# Altium integrated library AMP Memory Module SIMM.IntLib: 20 symbols
Pins are listed as number, name and electrical type; pins without a type are passive.

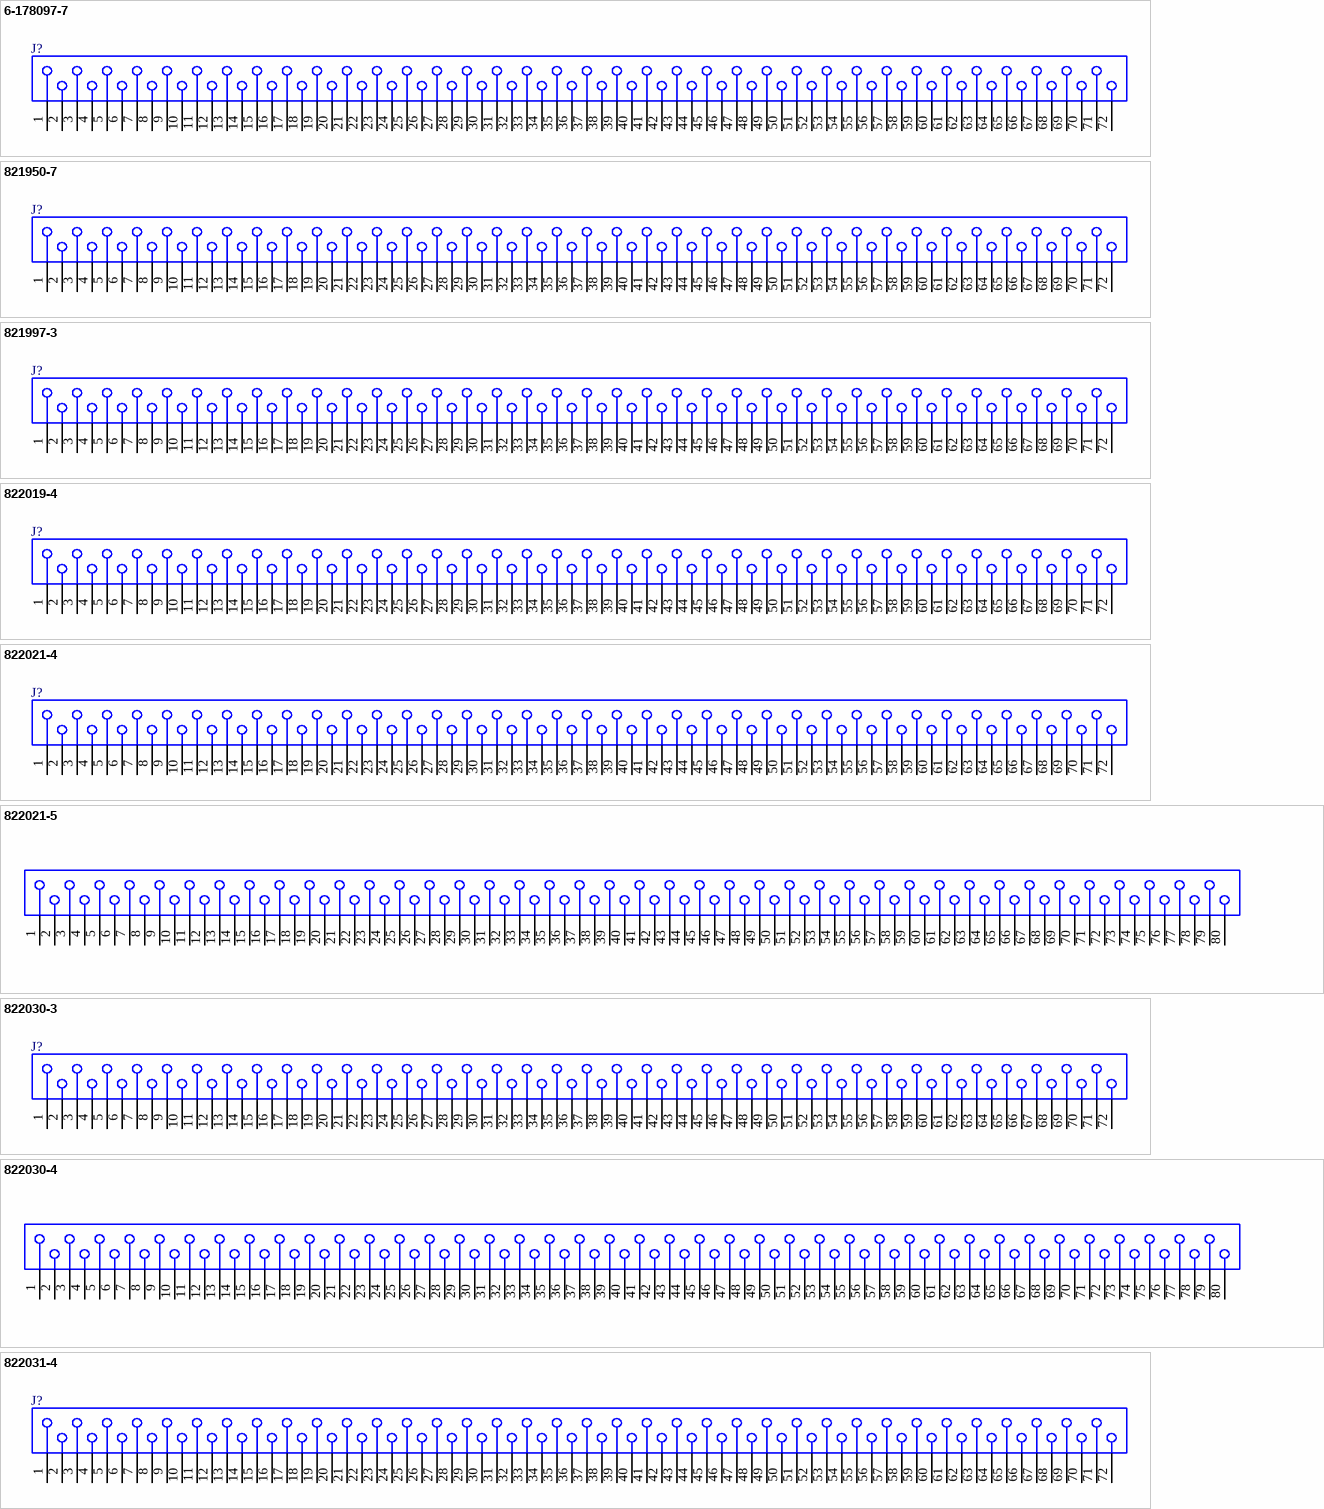
[diagram p0: symbols 6-178097-7 to 822031-4]

## 6-178097-7
designator J?
SIMM, Micro-Edge J Connector Horizontal Type 1.27C/L , Gold Plate; Positions: 72; Rows: Single; InsertionStyle: Cam-In; EjectorLocation: Both Ends; PCB_Layout: Complies with manufacturer's recommendation.; DrillSize: Corresponds to nominal value.; ComponentAvailability: Obsolete; Published: 15-Jun-2001; LatestRevisionDate: 17-Jul-2002; LatestRevisionNote: Re-released for DXP Platform.; DatasheetDocument: 11-Nov-1998; PackageDocument: 11-Nov-1998; PackageReference: 6-178097-7; Publisher: Altium Limited; Orientation: 30°; ComponentLink1Description: Manufacturer Link; ComponentLink1URL: http://www.tycoelectronics.com/
footprint 6-178097-7 (Connector; SIMM; 72 Position; Orientation 30°)
signal-integrity model Memory Module
pins: 1, 2, 3, 4, 5, 6, 7, 8, 9, 10, 11, 12, 13, 14, 15, 16, 17, 18, 19, 20, 21, 22, 23, 24, 25, 26, 27, 28, 29, 30, 31, 32, 33, 34, 35, 36, 37, 38, 39, 40, 41, 42, 43, 44, 45, 46, 47, 48, 49, 50, 51, 52, 53, 54, 55, 56, 57, 58, 59, 60, 61, 62, 63, 64, 65, 66, 67, 68, 69, 70, 71, 72

## 821950-7
designator J?
SIMM, Micro-Edge, 1.27 [.050] Low Profile, Gold Plate; Positions: 72; Rows: Single; InsertionStyle: Cam-In; EjectorLocation: None; PCB_Layout: Complies with manufacturer's recommendation.; DrillSize: Corresponds to nominal value.; Published: 15-Jun-2001; LatestRevisionDate: 17-Jul-2002; LatestRevisionNote: Re-released for DXP Platform.; DatasheetDocument: 15-Jul-1997; PackageDocument: 15-Jul-1997; PackageReference: 821950-7; Publisher: Altium Limited; Orientation: 25°; ComponentLink1Description: Manufacturer Link; ComponentLink1URL: http://www.tycoelectronics.com/; ComponentLink2Description: Packaging Specification; ComponentLink2URL: http://ecommas.tycoelectronics.com/commerce/DocumentDelivery/DDEController?Action=showdoc&DocId=Customer+Drawing%7F821950%7FS%7Fpdf%7FEnglish%7FENG_CD_821950_S.pdf; ComponentLink3Description: Iges Model; ComponentLink3URL: http://catalog.tycoelectronics.com/TE/docs/cadgeo/3/97/35793.tar.gz
footprint 821950-7 (Connector; SIMM; 72 Position; Orientation 25°)
signal-integrity model Memory Module
pins: 1, 2, 3, 4, 5, 6, 7, 8, 9, 10, 11, 12, 13, 14, 15, 16, 17, 18, 19, 20, 21, 22, 23, 24, 25, 26, 27, 28, 29, 30, 31, 32, 33, 34, 35, 36, 37, 38, 39, 40, 41, 42, 43, 44, 45, 46, 47, 48, 49, 50, 51, 52, 53, 54, 55, 56, 57, 58, 59, 60, 61, 62, 63, 64, 65, 66, 67, 68, 69, 70, 71, 72

## 821997-3
designator J?
SIMM, Micro-Edge, 1.27 [.050] Vertical, Gold Plate, Metal Latch; Positions: 72; Rows: Single; InsertionStyle: Cam-In; EjectorLocation: None; PCB_Layout: Complies with manufacturer's recommendation.; DrillSize: Corresponds to nominal value.; Published: 15-Jun-2001; LatestRevisionDate: 17-Jul-2002; LatestRevisionNote: Re-released for DXP Platform.; DatasheetDocument: 27-Jan-1996; PackageDocument: 27-Jan-1996; PackageReference: 821997-3; Publisher: Altium Limited; Orientation: Vertical; ComponentLink1Description: Manufacturer Link; ComponentLink1URL: http://www.tycoelectronics.com/; ComponentLink2Description: Packaging Specification; ComponentLink2URL: http://ecommas.tycoelectronics.com/commerce/DocumentDelivery/DDEController?Action=showdoc&DocId=Customer+Drawing%7F821997%7FS%7Fpdf%7FEnglish%7FENG_CD_821997_S.pdf
footprint 821997-3 (Connector; SIMM; 72 Position; Vertical)
signal-integrity model Memory Module
pins: 1, 2, 3, 4, 5, 6, 7, 8, 9, 10, 11, 12, 13, 14, 15, 16, 17, 18, 19, 20, 21, 22, 23, 24, 25, 26, 27, 28, 29, 30, 31, 32, 33, 34, 35, 36, 37, 38, 39, 40, 41, 42, 43, 44, 45, 46, 47, 48, 49, 50, 51, 52, 53, 54, 55, 56, 57, 58, 59, 60, 61, 62, 63, 64, 65, 66, 67, 68, 69, 70, 71, 72

## 822019-4
designator J?
SIMM, Micro-Edge, 1.27 [.050] CL, Vertical, Tin Plate, Metal Latch; Positions: 72; Rows: Single; InsertionStyle: Cam-In; EjectorLocation: None; PCB_Layout: Complies with manufacturer's recommendation.; DrillSize: Corresponds to nominal value.; Published: 15-Jun-2001; LatestRevisionDate: 17-Jul-2002; LatestRevisionNote: Re-released for DXP Platform.; DatasheetDocument: 17-Jul-2000; PackageDocument: 17-Jul-2000; PackageReference: 822019-4; Publisher: Altium Limited; Orientation: Vertical; ComponentLink1Description: Manufacturer Link; ComponentLink1URL: http://www.tycoelectronics.com/; ComponentLink2Description: Packaging Specification; ComponentLink2URL: http://ecommas.tycoelectronics.com/commerce/DocumentDelivery/DDEController?Action=showdoc&DocId=Customer+Drawing%7F822019%7FP%7Fpdf%7FEnglish%7FENG_CD_822019_P.pdf
footprint 822019-4 (Connector; SIMM; 72 Position; Vertical)
signal-integrity model Memory Module
pins: 1, 2, 3, 4, 5, 6, 7, 8, 9, 10, 11, 12, 13, 14, 15, 16, 17, 18, 19, 20, 21, 22, 23, 24, 25, 26, 27, 28, 29, 30, 31, 32, 33, 34, 35, 36, 37, 38, 39, 40, 41, 42, 43, 44, 45, 46, 47, 48, 49, 50, 51, 52, 53, 54, 55, 56, 57, 58, 59, 60, 61, 62, 63, 64, 65, 66, 67, 68, 69, 70, 71, 72

## 822021-4
designator J?
SIMM, Micro-Edge, 1.27 [.050] Vertical, Tin Plate, Metal Latch; Positions: 72; Rows: Single; InsertionStyle: Cam-In; EjectorLocation: None; PCB_Layout: Complies with manufacturer's recommendation.; DrillSize: Corresponds to nominal value.; Published: 15-Jun-2001; LatestRevisionDate: 17-Jul-2002; LatestRevisionNote: Re-released for DXP Platform.; DatasheetDocument: 4-Nov-1998; PackageDocument: 04-Nov-1998; PackageReference: 822021-4; Publisher: Altium Limited; Orientation: Vertical; ComponentLink1Description: Manufacturer Link; ComponentLink1URL: http://www.tycoelectronics.com/; ComponentLink2Description: Packaging Specification; ComponentLink2URL: http://ecommas.tycoelectronics.com/commerce/DocumentDelivery/DDEController?Action=showdoc&DocId=Customer+Drawing%7F822021%7FT%7Fpdf%7FEnglish%7FENG_CD_822021_T.pdf
footprint 822021-4 (Connector; SIMM; 72 Position; Vertical)
signal-integrity model Memory Module
pins: 1, 2, 3, 4, 5, 6, 7, 8, 9, 10, 11, 12, 13, 14, 15, 16, 17, 18, 19, 20, 21, 22, 23, 24, 25, 26, 27, 28, 29, 30, 31, 32, 33, 34, 35, 36, 37, 38, 39, 40, 41, 42, 43, 44, 45, 46, 47, 48, 49, 50, 51, 52, 53, 54, 55, 56, 57, 58, 59, 60, 61, 62, 63, 64, 65, 66, 67, 68, 69, 70, 71, 72

## 822021-5
designator J?
SIMM, Micro-Edge, 1.27 [.050] Vertical, Tin Plate, Metal Latch; Positions: 80; Rows: Single; InsertionStyle: Cam-In; EjectorLocation: None; PCB_Layout: Complies with manufacturer's recommendation.; DrillSize: Corresponds to nominal value.; Published: 15-Jun-2001; LatestRevisionDate: 17-Jul-2002; LatestRevisionNote: Re-released for DXP Platform.; DatasheetDocument: 4-Nov-1998; PackageDocument: 04-Nov-1998; PackageReference: 822021-5; Publisher: Altium Limited; Orientation: Vertical; ComponentLink1Description: Manufacturer Link; ComponentLink1URL: http://www.tycoelectronics.com/; ComponentLink2Description: Packaging Specification; ComponentLink2URL: http://ecommas.tycoelectronics.com/commerce/DocumentDelivery/DDEController?Action=showdoc&DocId=Customer+Drawing%7F822021%7FT%7Fpdf%7FEnglish%7FENG_CD_822021_T.pdf
footprint 822021-5 (Connector; SIMM; 80 Position; Vertical)
signal-integrity model Memory Module
pins: 1 p1, 2 p2, 3 p3, 4 p4, 5 p5, 6 p6, 7 p7, 8 p8, 9 p9, 10 p10, 11 p11, 12 p12, 13 p13, 14 p14, 15 p15, 16 p16, 17 p17, 18 p18, 19 p19, 20 p20, 21 p21, 22 p22, 23 p23, 24 p24, 25 p25, 26 p26, 27 p27, 28 p28, 29 p29, 30 p30, 31 p31, 32 p32, 33 p33, 34 p34, 35 p35, 36 p36, 37 p37, 38 p38, 39 p39, 40 p40, 41 p41, 42 p42, 43 p43, 44 p44, 45 p45, 46 p46, 47 p47, 48 p48, 49 p49, 50 p50, 51 p51, 52 p52, 53 p53, 54 p54, 55 p55, 56 p56, 57 p57, 58 p58, 59 p59, 60 p60, 61 p61, 62 p62, 63 p63, 64 p64, 65 p65, 66 p66, 67 p67, 68 p68, 69 p69, 70 p70, 71 p71, 72 p72, 73 p73, 74 p74, 75 p75, 76 p76, 77 p77, 78 p78, 79 p79, 80 p80

## 822030-3
designator J?
SIMM, Micro-Edge, 1.27 [.050] Vertical, Tin Plate, Metal Latch; Positions: 72; Rows: Single; InsertionStyle: Cam-In; EjectorLocation: None; PCB_Layout: Complies with manufacturer's recommendation.; DrillSize: Corresponds to nominal value.; Published: 15-Jun-2001; LatestRevisionDate: 17-Jul-2002; LatestRevisionNote: Re-released for DXP Platform.; DatasheetDocument: 6-Oct-1997; PackageDocument: 06-Oct-1997; PackageReference: 822030-3; Publisher: Altium Limited; Orientation: Vertical; ComponentLink1Description: Manufacturer Link; ComponentLink1URL: http://www.tycoelectronics.com/; ComponentLink2Description: Packaging Specification; ComponentLink2URL: http://ecommas.tycoelectronics.com/commerce/DocumentDelivery/DDEController?Action=showdoc&DocId=Customer+Drawing%7F822030%7FR%7Fpdf%7FEnglish%7FENG_CD_822030_R.pdf; ComponentLink3Description: Iges Model; ComponentLink3URL: http://catalog.tycoelectronics.com/TE/docs/cadgeo/4/49/30944.tar.gz
footprint 822030-3 (Connector; SIMM; 72 Position; Vertical)
signal-integrity model Memory Module
pins: 1, 2, 3, 4, 5, 6, 7, 8, 9, 10, 11, 12, 13, 14, 15, 16, 17, 18, 19, 20, 21, 22, 23, 24, 25, 26, 27, 28, 29, 30, 31, 32, 33, 34, 35, 36, 37, 38, 39, 40, 41, 42, 43, 44, 45, 46, 47, 48, 49, 50, 51, 52, 53, 54, 55, 56, 57, 58, 59, 60, 61, 62, 63, 64, 65, 66, 67, 68, 69, 70, 71, 72

## 822030-4
designator J?
SIMM, Micro-Edge, 1.27 [.050] Vertical, Tin Plate, Metal Latch; Positions: 80; Rows: Single; InsertionStyle: Cam-In; EjectorLocation: None; PCB_Layout: Complies with manufacturer's recommendation.; DrillSize: Corresponds to nominal value.; Published: 15-Jun-2001; LatestRevisionDate: 17-Jul-2002; LatestRevisionNote: Re-released for DXP Platform.; DatasheetDocument: 6-Oct-1997; PackageDocument: 06-Oct-1997; PackageReference: 822030-4; Publisher: Altium Limited; Orientation: Vertical; ComponentLink1Description: Manufacturer Link; ComponentLink1URL: http://www.tycoelectronics.com/; ComponentLink2Description: Packaging Specification; ComponentLink2URL: http://ecommas.tycoelectronics.com/commerce/DocumentDelivery/DDEController?Action=showdoc&DocId=Customer+Drawing%7F822030%7FR%7Fpdf%7FEnglish%7FENG_CD_822030_R.pdf; ComponentLink3Description: Iges Model; ComponentLink3URL: http://catalog.tycoelectronics.com/TE/docs/cadgeo/4/49/30944.tar.gz
footprint 822030-4 (Connector; SIMM; 80 Position; Vertical)
signal-integrity model Memory Module
pins: 1 p1, 2 p2, 3 p3, 4 p4, 5 p5, 6 p6, 7 p7, 8 p8, 9 p9, 10 p10, 11 p11, 12 p12, 13 p13, 14 p14, 15 p15, 16 p16, 17 p17, 18 p18, 19 p19, 20 p20, 21 p21, 22 p22, 23 p23, 24 p24, 25 p25, 26 p26, 27 p27, 28 p28, 29 p29, 30 p30, 31 p31, 32 p32, 33 p33, 34 p34, 35 p35, 36 p36, 37 p37, 38 p38, 39 p39, 40 p40, 41 p41, 42 p42, 43 p43, 44 p44, 45 p45, 46 p46, 47 p47, 48 p48, 49 p49, 50 p50, 51 p51, 52 p52, 53 p53, 54 p54, 55 p55, 56 p56, 57 p57, 58 p58, 59 p59, 60 p60, 61 p61, 62 p62, 63 p63, 64 p64, 65 p65, 66 p66, 67 p67, 68 p68, 69 p69, 70 p70, 71 p71, 72 p72, 73 p73, 74 p74, 75 p75, 76 p76, 77 p77, 78 p78, 79 p79, 80 p80

## 822031-4
designator J?
SIMM, Micro-Edge, 1.27 [.050] Vertical, Gold Plate; Positions: 72; Rows: Single; InsertionStyle: Cam-In; EjectorLocation: None; PCB_Layout: Complies with manufacturer's recommendation.; DrillSize: Corresponds to nominal value.; Published: 15-Jun-2001; LatestRevisionDate: 17-Jul-2002; LatestRevisionNote: Re-released for DXP Platform.; DatasheetDocument: 20-Oct-1998; PackageDocument: 20-Oct-1998; PackageReference: 822031-4; Publisher: Altium Limited; Orientation: Vertical; ComponentLink1Description: Manufacturer Link; ComponentLink1URL: http://www.tycoelectronics.com/; ComponentLink2Description: Packaging Specification; ComponentLink2URL: http://ecommas.tycoelectronics.com/commerce/DocumentDelivery/DDEController?Action=showdoc&DocId=Customer+Drawing%7F822031%7FM%7Fpdf%7FEnglish%7FENG_CD_822031_M.pdf; ComponentLink3Description: Iges Model; ComponentLink3URL: http://catalog.tycoelectronics.com/TE/docs/cadgeo/2/59/30952.tar.gz
footprint 822031-4 (Connector; SIMM; 72 Position; Vertical)
signal-integrity model Memory Module
pins: 1, 2, 3, 4, 5, 6, 7, 8, 9, 10, 11, 12, 13, 14, 15, 16, 17, 18, 19, 20, 21, 22, 23, 24, 25, 26, 27, 28, 29, 30, 31, 32, 33, 34, 35, 36, 37, 38, 39, 40, 41, 42, 43, 44, 45, 46, 47, 48, 49, 50, 51, 52, 53, 54, 55, 56, 57, 58, 59, 60, 61, 62, 63, 64, 65, 66, 67, 68, 69, 70, 71, 72

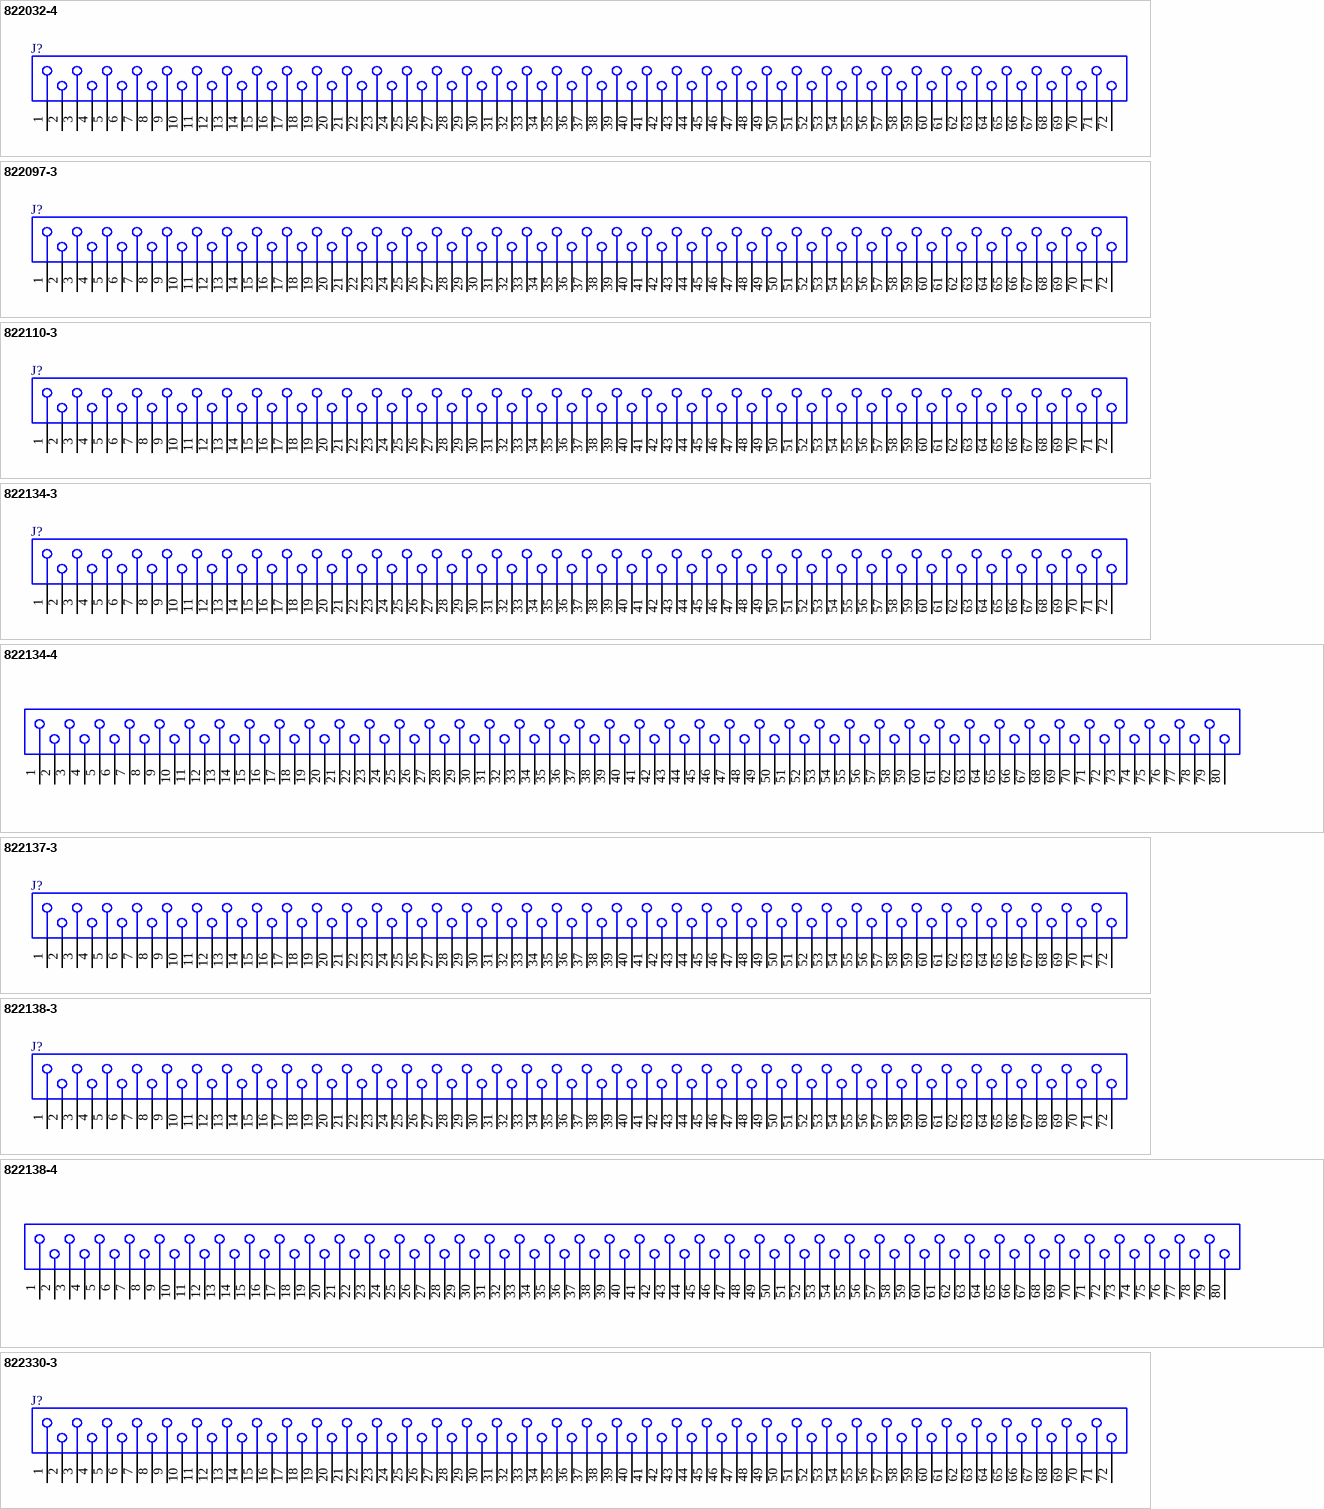
[diagram p1: symbols 822032-4 to 822330-3]

## 822032-4
designator J?
SIMM, Micro-Edge, 1.27 [.050] Vertical, Gold Plate, Metal Latch; Positions: 72; Rows: Single; InsertionStyle: Cam-In; EjectorLocation: None; PCB_Layout: Complies with manufacturer's recommendation.; DrillSize: Corresponds to nominal value.; Published: 15-Jun-2001; LatestRevisionDate: 17-Jul-2002; LatestRevisionNote: Re-released for DXP Platform.; DatasheetDocument: 6-Oct-1997; PackageDocument: 06-Oct-1997; PackageReference: 822032-4; Publisher: Altium Limited; Orientation: Vertical; ComponentLink1Description: Manufacturer Link; ComponentLink1URL: http://www.tycoelectronics.com/; ComponentLink2Description: Packaging Specification; ComponentLink2URL: http://ecommas.tycoelectronics.com/commerce/DocumentDelivery/DDEController?Action=showdoc&DocId=Customer+Drawing%7F822032%7FR%7Fpdf%7FEnglish%7FENG_CD_822032_R.pdf
footprint 822032-4 (Connector; SIMM; 72 Position; Vertical)
signal-integrity model Memory Module
pins: 1, 2, 3, 4, 5, 6, 7, 8, 9, 10, 11, 12, 13, 14, 15, 16, 17, 18, 19, 20, 21, 22, 23, 24, 25, 26, 27, 28, 29, 30, 31, 32, 33, 34, 35, 36, 37, 38, 39, 40, 41, 42, 43, 44, 45, 46, 47, 48, 49, 50, 51, 52, 53, 54, 55, 56, 57, 58, 59, 60, 61, 62, 63, 64, 65, 66, 67, 68, 69, 70, 71, 72

## 822097-3
designator J?
SIMM, Micro-Edge, 1.27 [.050] Low Profile, Gold Plate, Metal Latch; Positions: 72; Rows: Single; InsertionStyle: Cam-In; EjectorLocation: None; PCB_Layout: Complies with manufacturer's recommendation.; DrillSize: Corresponds to nominal value.; Published: 15-Jun-2001; LatestRevisionDate: 17-Jul-2002; LatestRevisionNote: Re-released for DXP Platform.; DatasheetDocument: 9-Nov-1997; PackageDocument: 09-Nov-1997; PackageReference: 822097-3; Publisher: Altium Limited; Orientation: 22°; ComponentLink1Description: Manufacturer Link; ComponentLink1URL: http://www.tycoelectronics.com/; ComponentLink2Description: Packaging Specification; ComponentLink2URL: http://ecommas.tycoelectronics.com/commerce/DocumentDelivery/DDEController?Action=showdoc&DocId=Customer+Drawing%7F822097%7FW%7Fpdf%7FEnglish%7FENG_CD_822097_W.pdf; ComponentLink3Description: Iges Model; ComponentLink3URL: http://catalog.tycoelectronics.com/TE/docs/cadgeo/7/97/35797.tar.gz
footprint 822097-3 (Connector; SIMM; 72 Position; Orientation 22°)
signal-integrity model Memory Module
pins: 1, 2, 3, 4, 5, 6, 7, 8, 9, 10, 11, 12, 13, 14, 15, 16, 17, 18, 19, 20, 21, 22, 23, 24, 25, 26, 27, 28, 29, 30, 31, 32, 33, 34, 35, 36, 37, 38, 39, 40, 41, 42, 43, 44, 45, 46, 47, 48, 49, 50, 51, 52, 53, 54, 55, 56, 57, 58, 59, 60, 61, 62, 63, 64, 65, 66, 67, 68, 69, 70, 71, 72

## 822110-3
designator J?
SIMM, Micro-Edge, 1.27 [.050] Low Profile, Tin Plate, Metal Latch; Positions: 72; Rows: Single; InsertionStyle: Cam-In; EjectorLocation: None; PCB_Layout: Complies with manufacturer's recommendation.; DrillSize: Corresponds to nominal value.; Published: 15-Jun-2001; LatestRevisionDate: 17-Jul-2002; LatestRevisionNote: Re-released for DXP Platform.; DatasheetDocument: 9-Nov-1997; PackageDocument: 09-Nov-1997; PackageReference: 822110-3; Publisher: Altium Limited; Orientation: 22°; ComponentLink1Description: Manufacturer Link; ComponentLink1URL: http://www.tycoelectronics.com/; ComponentLink2Description: Packaging Specification; ComponentLink2URL: http://ecommas.tycoelectronics.com/commerce/DocumentDelivery/DDEController?Action=showdoc&DocId=Customer+Drawing%7F822110%7FU%7Fpdf%7FEnglish%7FENG_CD_822110_U.pdf; ComponentLink3Description: Iges Model; ComponentLink3URL: http://catalog.tycoelectronics.com/TE/docs/cadgeo/2/01/33102.tar.gz
footprint 822110-3 (Connector; SIMM; 72 Position; Orientation 22°)
signal-integrity model Memory Module
pins: 1, 2, 3, 4, 5, 6, 7, 8, 9, 10, 11, 12, 13, 14, 15, 16, 17, 18, 19, 20, 21, 22, 23, 24, 25, 26, 27, 28, 29, 30, 31, 32, 33, 34, 35, 36, 37, 38, 39, 40, 41, 42, 43, 44, 45, 46, 47, 48, 49, 50, 51, 52, 53, 54, 55, 56, 57, 58, 59, 60, 61, 62, 63, 64, 65, 66, 67, 68, 69, 70, 71, 72

## 822134-3
designator J?
SIMM, Micro-Edge, 1.27 [.050] Low Profile, Tin Plate, Metal Latch; Positions: 72; Rows: Single; InsertionStyle: Cam-In; EjectorLocation: None; PCB_Layout: Complies with manufacturer's recommendation.; DrillSize: Corresponds to nominal value.; Published: 15-Jun-2001; LatestRevisionDate: 17-Jul-2002; LatestRevisionNote: Re-released for DXP Platform.; DatasheetDocument: 9-Nov-1997; PackageDocument: 09-Nov-1997; PackageReference: 822134-3; Publisher: Altium Limited; Orientation: 22°; ComponentLink1Description: Manufacturer Link; ComponentLink1URL: http://www.tycoelectronics.com/; ComponentLink2Description: Packaging Specification; ComponentLink2URL: http://ecommas.tycoelectronics.com/commerce/DocumentDelivery/DDEController?Action=showdoc&DocId=Customer+Drawing%7F822134%7FR%7Fpdf%7FEnglish%7FENG_CD_822134_R.pdf
footprint 822134-3 (Connector; SIMM; 72 Position; Orientation 22°)
signal-integrity model Memory Module
pins: 1, 2, 3, 4, 5, 6, 7, 8, 9, 10, 11, 12, 13, 14, 15, 16, 17, 18, 19, 20, 21, 22, 23, 24, 25, 26, 27, 28, 29, 30, 31, 32, 33, 34, 35, 36, 37, 38, 39, 40, 41, 42, 43, 44, 45, 46, 47, 48, 49, 50, 51, 52, 53, 54, 55, 56, 57, 58, 59, 60, 61, 62, 63, 64, 65, 66, 67, 68, 69, 70, 71, 72

## 822134-4
designator J?
SIMM, Micro-Edge, 1.27 [.050] Low Profile, Tin Plate, Metal Latch; Positions: 80; Rows: Single; InsertionStyle: Cam-In; EjectorLocation: None; PCB_Layout: Complies with manufacturer's recommendation.; DrillSize: Corresponds to nominal value.; Published: 15-Jun-2001; LatestRevisionDate: 17-Jul-2002; LatestRevisionNote: Re-released for DXP Platform.; DatasheetDocument: 9-Nov-1997; PackageDocument: 09-Nov-1997; PackageReference: 822134-4; Publisher: Altium Limited; Orientation: 22°; ComponentLink1Description: Manufacturer Link; ComponentLink1URL: http://www.tycoelectronics.com/; ComponentLink2Description: Packaging Specification; ComponentLink2URL: http://ecommas.tycoelectronics.com/commerce/DocumentDelivery/DDEController?Action=showdoc&DocId=Customer+Drawing%7F822134%7FR%7Fpdf%7FEnglish%7FENG_CD_822134_R.pdf
footprint 822134-4 (Connector; SIMM; 80 Position; Orientation 22°)
signal-integrity model Memory Module
pins: 1 p1, 2 p2, 3 p3, 4 p4, 5 p5, 6 p6, 7 p7, 8 p8, 9 p9, 10 p10, 11 p11, 12 p12, 13 p13, 14 p14, 15 p15, 16 p16, 17 p17, 18 p18, 19 p19, 20 p20, 21 p21, 22 p22, 23 p23, 24 p24, 25 p25, 26 p26, 27 p27, 28 p28, 29 p29, 30 p30, 31 p31, 32 p32, 33 p33, 34 p34, 35 p35, 36 p36, 37 p37, 38 p38, 39 p39, 40 p40, 41 p41, 42 p42, 43 p43, 44 p44, 45 p45, 46 p46, 47 p47, 48 p48, 49 p49, 50 p50, 51 p51, 52 p52, 53 p53, 54 p54, 55 p55, 56 p56, 57 p57, 58 p58, 59 p59, 60 p60, 61 p61, 62 p62, 63 p63, 64 p64, 65 p65, 66 p66, 67 p67, 68 p68, 69 p69, 70 p70, 71 p71, 72 p72, 73 p73, 74 p74, 75 p75, 76 p76, 77 p77, 78 p78, 79 p79, 80 p80

## 822137-3
designator J?
SIMM, Micro-Edge, 1.27 [.050] Low Profile, Gold Plate, Metal Latch; Positions: 72; Rows: Single; InsertionStyle: Cam-In; EjectorLocation: None; PCB_Layout: Complies with manufacturer's recommendation.; DrillSize: Corresponds to nominal value.; Published: 15-Jun-2001; LatestRevisionDate: 17-Jul-2002; LatestRevisionNote: Re-released for DXP Platform.; DatasheetDocument: 30-Sep-1997; PackageDocument: 30-Sep-1997; PackageReference: 822137-3; Publisher: Altium Limited; Orientation: 22°; ComponentLink1Description: Manufacturer Link; ComponentLink1URL: http://www.tycoelectronics.com/; ComponentLink2Description: Packaging Specification; ComponentLink2URL: http://ecommas.tycoelectronics.com/commerce/DocumentDelivery/DDEController?Action=showdoc&DocId=Customer+Drawing%7F822137%7FU%7Fpdf%7FEnglish%7FENG_CD_822137_U.pdf; ComponentLink3Description: Iges Model; ComponentLink3URL: http://catalog.tycoelectronics.com/TE/docs/cadgeo/1/08/35801.tar.gz
footprint 822137-3 (Connector; SIMM; 72 Position; Orientation 22°)
signal-integrity model Memory Module
pins: 1, 2, 3, 4, 5, 6, 7, 8, 9, 10, 11, 12, 13, 14, 15, 16, 17, 18, 19, 20, 21, 22, 23, 24, 25, 26, 27, 28, 29, 30, 31, 32, 33, 34, 35, 36, 37, 38, 39, 40, 41, 42, 43, 44, 45, 46, 47, 48, 49, 50, 51, 52, 53, 54, 55, 56, 57, 58, 59, 60, 61, 62, 63, 64, 65, 66, 67, 68, 69, 70, 71, 72

## 822138-3
designator J?
SIMM, Micro-Edge, 1.27 [.050] Low Profile, Gold Plate, Metal Latch; Positions: 72; Rows: Single; InsertionStyle: Cam-In; EjectorLocation: None; PCB_Layout: Complies with manufacturer's recommendation.; DrillSize: Corresponds to nominal value.; Published: 15-Jun-2001; LatestRevisionDate: 17-Jul-2002; LatestRevisionNote: Re-released for DXP Platform.; DatasheetDocument: 9-Nov-1997; PackageDocument: 09-Nov-1997; PackageReference: 822138-3; Publisher: Altium Limited; Orientation: 22°; ComponentLink1Description: Manufacturer Link; ComponentLink1URL: http://www.tycoelectronics.com/; ComponentLink2Description: Packaging Specification; ComponentLink2URL: http://ecommas.tycoelectronics.com/commerce/DocumentDelivery/DDEController?Action=showdoc&DocId=Customer+Drawing%7F822138%7FT%7Fpdf%7FEnglish%7FENG_CD_822138_T.pdf; ComponentLink3Description: Iges Model; ComponentLink3URL: http://catalog.tycoelectronics.com/TE/docs/cadgeo/7/08/35807.tar.gz
footprint 822138-3 (Connector; SIMM; 72 Position; Orientation 22°)
signal-integrity model Memory Module
pins: 1, 2, 3, 4, 5, 6, 7, 8, 9, 10, 11, 12, 13, 14, 15, 16, 17, 18, 19, 20, 21, 22, 23, 24, 25, 26, 27, 28, 29, 30, 31, 32, 33, 34, 35, 36, 37, 38, 39, 40, 41, 42, 43, 44, 45, 46, 47, 48, 49, 50, 51, 52, 53, 54, 55, 56, 57, 58, 59, 60, 61, 62, 63, 64, 65, 66, 67, 68, 69, 70, 71, 72

## 822138-4
designator J?
SIMM, Micro-Edge, 1.27 [.050] Low Profile, Gold Plate, Metal Latch; Positions: 80; Rows: Single; InsertionStyle: Cam-In; EjectorLocation: None; PCB_Layout: Complies with manufacturer's recommendation.; DrillSize: Corresponds to nominal value.; Published: 15-Jun-2001; LatestRevisionDate: 17-Jul-2002; LatestRevisionNote: Re-released for DXP Platform.; DatasheetDocument: 9-Nov-1997; PackageDocument: 09-Nov-1997; PackageReference: 822138-4; Publisher: Altium Limited; Orientation: 25°; ComponentLink1Description: Manufacturer Link; ComponentLink1URL: http://www.tycoelectronics.com/; ComponentLink2Description: Packaging Specification; ComponentLink2URL: http://ecommas.tycoelectronics.com/commerce/DocumentDelivery/DDEController?Action=showdoc&DocId=Customer+Drawing%7F822138%7FT%7Fpdf%7FEnglish%7FENG_CD_822138_T.pdf; ComponentLink3Description: Iges Model; ComponentLink3URL: http://catalog.tycoelectronics.com/TE/docs/cadgeo/7/08/35807.tar.gz
footprint 822138-4 (Connector; SIMM; 80 Position; Orientation 25°)
signal-integrity model Memory Module
pins: 1 p1, 2 p2, 3 p3, 4 p4, 5 p5, 6 p6, 7 p7, 8 p8, 9 p9, 10 p10, 11 p11, 12 p12, 13 p13, 14 p14, 15 p15, 16 p16, 17 p17, 18 p18, 19 p19, 20 p20, 21 p21, 22 p22, 23 p23, 24 p24, 25 p25, 26 p26, 27 p27, 28 p28, 29 p29, 30 p30, 31 p31, 32 p32, 33 p33, 34 p34, 35 p35, 36 p36, 37 p37, 38 p38, 39 p39, 40 p40, 41 p41, 42 p42, 43 p43, 44 p44, 45 p45, 46 p46, 47 p47, 48 p48, 49 p49, 50 p50, 51 p51, 52 p52, 53 p53, 54 p54, 55 p55, 56 p56, 57 p57, 58 p58, 59 p59, 60 p60, 61 p61, 62 p62, 63 p63, 64 p64, 65 p65, 66 p66, 67 p67, 68 p68, 69 p69, 70 p70, 71 p71, 72 p72, 73 p73, 74 p74, 75 p75, 76 p76, 77 p77, 78 p78, 79 p79, 80 p80

## 822330-3
designator J?
SIMM, Micro-Edge, 1.27 [.050] Low Profile, Tin Plate, Metal Latch; Positions: 72; Rows: Single; InsertionStyle: Cam-In; EjectorLocation: None; PCB_Layout: Complies with manufacturer's recommendation.; DrillSize: Corresponds to nominal value.; Published: 15-Jun-2001; LatestRevisionDate: 17-Jul-2002; LatestRevisionNote: Re-released for DXP Platform.; DatasheetDocument: 8-Jun-2000; PackageDocument: 08-Jun-2000; PackageReference: 822330-3; Publisher: Altium Limited; Orientation: 22°; ComponentLink1Description: Manufacturer Link; ComponentLink1URL: http://www.tycoelectronics.com/; ComponentLink2Description: Packaging Specification; ComponentLink2URL: http://ecommas.tycoelectronics.com/commerce/DocumentDelivery/DDEController?Action=showdoc&DocId=Customer+Drawing%7F822330%7FM%7Fpdf%7FEnglish%7FENG_CD_822330_M.pdf
footprint 822330-3 (Connector; SIMM; 72 Position; Orientation 22°)
signal-integrity model Memory Module
pins: 1, 2, 3, 4, 5, 6, 7, 8, 9, 10, 11, 12, 13, 14, 15, 16, 17, 18, 19, 20, 21, 22, 23, 24, 25, 26, 27, 28, 29, 30, 31, 32, 33, 34, 35, 36, 37, 38, 39, 40, 41, 42, 43, 44, 45, 46, 47, 48, 49, 50, 51, 52, 53, 54, 55, 56, 57, 58, 59, 60, 61, 62, 63, 64, 65, 66, 67, 68, 69, 70, 71, 72

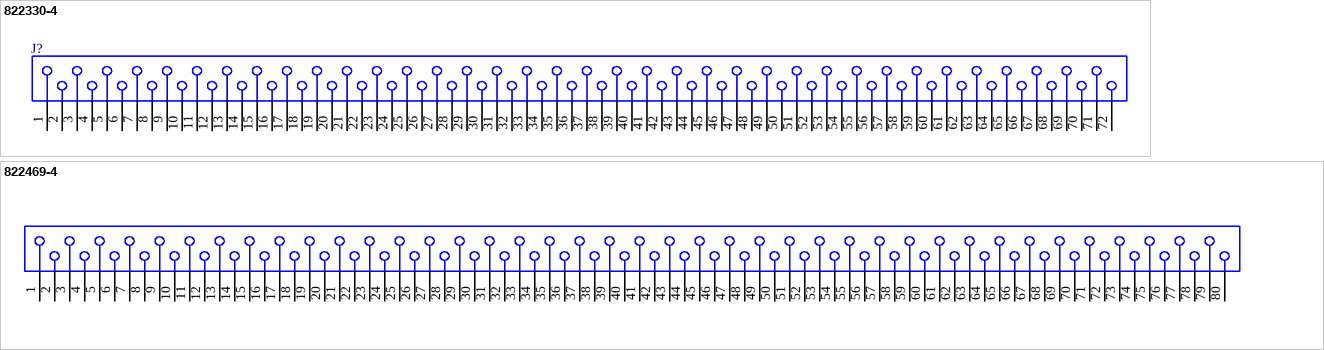
[diagram p2: symbols 822330-4 to 822469-4]

## 822330-4
designator J?
SIMM, Micro-Edge, 1.27 [.050] Low Profile, Tin Plate, Metal Latch; Positions: 72; Rows: Single; InsertionStyle: Cam-In; EjectorLocation: None; PCB_Layout: Complies with manufacturer's recommendation.; DrillSize: Corresponds to nominal value.; Published: 15-Jun-2001; LatestRevisionDate: 17-Jul-2002; LatestRevisionNote: Re-released for DXP Platform.; DatasheetDocument: 8-Jun-2000; PackageDocument: 08-Jun-2000; PackageReference: 822330-4; Publisher: Altium Limited; Orientation: 22°; ComponentLink1Description: Manufacturer Link; ComponentLink1URL: http://www.tycoelectronics.com/; ComponentLink2Description: Packaging Specification; ComponentLink2URL: http://ecommas.tycoelectronics.com/commerce/DocumentDelivery/DDEController?Action=showdoc&DocId=Customer+Drawing%7F822330%7FM%7Fpdf%7FEnglish%7FENG_CD_822330_M.pdf
footprint 822330-4 (Connector; SIMM; 72 Position; Orientation 22°)
signal-integrity model Memory Module
pins: 1, 2, 3, 4, 5, 6, 7, 8, 9, 10, 11, 12, 13, 14, 15, 16, 17, 18, 19, 20, 21, 22, 23, 24, 25, 26, 27, 28, 29, 30, 31, 32, 33, 34, 35, 36, 37, 38, 39, 40, 41, 42, 43, 44, 45, 46, 47, 48, 49, 50, 51, 52, 53, 54, 55, 56, 57, 58, 59, 60, 61, 62, 63, 64, 65, 66, 67, 68, 69, 70, 71, 72

## 822469-4
designator J?
SIMM, Micro-Edge, 1.27 [.050] @22, Low Profile, Tin Plate, Metal Latch; Positions: 80; Rows: Single; InsertionStyle: Cam-In; EjectorLocation: None; PCB_Layout: Complies with manufacturer's recommendation.; DrillSize: Corresponds to nominal value.; Published: 15-Jun-2001; LatestRevisionDate: 17-Jul-2002; LatestRevisionNote: Re-released for DXP Platform.; DatasheetDocument: 24-Jul-1997; PackageDocument: 24-Jul-1997; PackageReference: 822469-4; Publisher: Altium Limited; Orientation: 22°; ComponentLink1Description: Manufacturer Link; ComponentLink1URL: http://www.tycoelectronics.com/; ComponentLink2Description: Packaging Specification; ComponentLink2URL: http://ecommas.tycoelectronics.com/commerce/DocumentDelivery/DDEController?Action=showdoc&DocId=Customer+Drawing%7F822469%7FA%7Fpdf%7FEnglish%7FENG_CD_822469_A.pdf
footprint 822469-4 (Connector; SIMM; 80 Position; Orientation 22°)
signal-integrity model Memory Module
pins: 1 p1, 2 p2, 3 p3, 4 p4, 5 p5, 6 p6, 7 p7, 8 p8, 9 p9, 10 p10, 11 p11, 12 p12, 13 p13, 14 p14, 15 p15, 16 p16, 17 p17, 18 p18, 19 p19, 20 p20, 21 p21, 22 p22, 23 p23, 24 p24, 25 p25, 26 p26, 27 p27, 28 p28, 29 p29, 30 p30, 31 p31, 32 p32, 33 p33, 34 p34, 35 p35, 36 p36, 37 p37, 38 p38, 39 p39, 40 p40, 41 p41, 42 p42, 43 p43, 44 p44, 45 p45, 46 p46, 47 p47, 48 p48, 49 p49, 50 p50, 51 p51, 52 p52, 53 p53, 54 p54, 55 p55, 56 p56, 57 p57, 58 p58, 59 p59, 60 p60, 61 p61, 62 p62, 63 p63, 64 p64, 65 p65, 66 p66, 67 p67, 68 p68, 69 p69, 70 p70, 71 p71, 72 p72, 73 p73, 74 p74, 75 p75, 76 p76, 77 p77, 78 p78, 79 p79, 80 p80